# Altium footprint library PcbLib.PcbLib: 2 footprints
Each footprint in its own frame and in the unit in brackets; x right, y up, seen from the top. Pads: shape width x height; smd on the part's side, far side on the other; paste and mask are expansions set on the pad; w line width, h text height; cw(c..) or ccw(c..) is an arc to the next point about the centre after c.
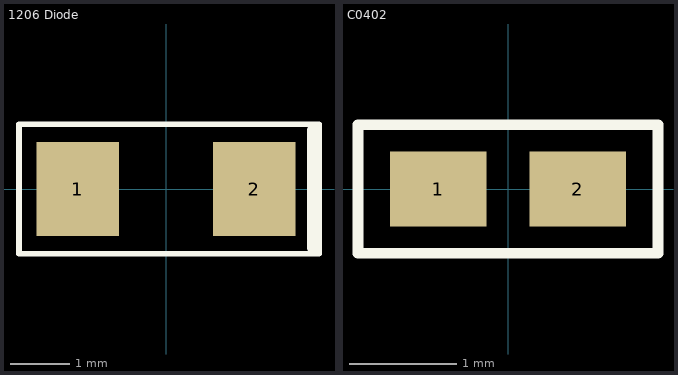
[diagram p0: the footprints below, top view; thin cyan lines are the x and y axes]

## 1206 Diode [mm]
pads (2):
  rect 1.4x1.6 smd: 1(-1.5,0) 2(1.5,0)
Top Overlay:
  lines w0.1: -2.5,-1.1 2.6,-1.1 2.6,1.1 -2.5,1.1 -2.5,-1.1
  lines w0.2: 2.5,-1 2.5,1

## C0402 [mm]
pads (2):
  rect 0.9x0.7 smd: 1(-0.65,0) 2(0.65,0)
Top Overlay:
  lines w0.1: -1.4,-0.6 1.4,-0.6 1.4,0.6 -1.4,0.6 -1.4,-0.6